# Altium footprint library TO170P470X1028X2142-5P.PcbLib: 1 footprints
Each footprint in its own frame and in the unit in brackets; x right, y up, seen from the top. Pads: shape width x height; smd on the part's side, far side on the other; paste and mask are expansions set on the pad; w line width, h text height; cw(c..) or ccw(c..) is an arc to the next point about the centre after c.
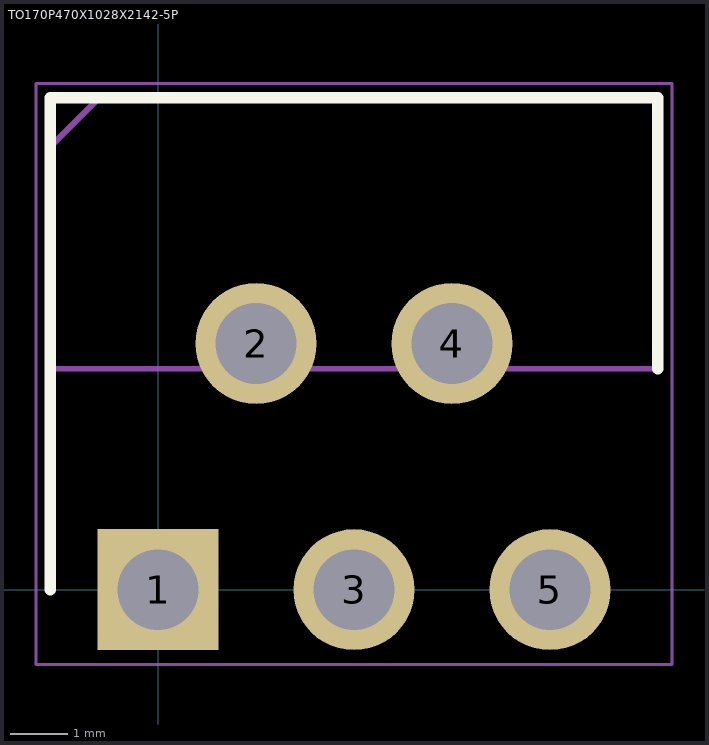
[diagram p0: the footprint, top view; thin cyan lines are the x and y axes]

## TO170P470X1028X2142-5P [mm]
pads (5):
  rect 2.1x2.1 / inner round 2.1 / far side rect 2.1x2.1 hole 1.4: 1(0,0)
  round 2.1 hole 1.4: 2(1.7,4.27) 3(3.4,0) 4(5.1,4.27) 5(6.8,0)
Top Overlay:
  lines w0.2: -1.87,0 -1.87,8.535 8.67,8.535 8.67,3.835
Mechanical 15:
  lines w0.1: -1.87,7.685 -1.02,8.535 ; -1.87,3.835 8.67,3.835 8.67,8.535 -1.87,8.535 -1.87,3.835
Mechanical 20:
  lines w0.05: -2.12,-1.3 8.92,-1.3 8.92,8.785 -2.12,8.785 -2.12,-1.3